# Altium footprint library Female_Header 1×8 2.54mm.PcbLib: 1 footprints
Each footprint in its own frame and in the unit in brackets; x right, y up, seen from the top. Pads: shape width x height; smd on the part's side, far side on the other; paste and mask are expansions set on the pad; w line width, h text height; cw(c..) or ccw(c..) is an arc to the next point about the centre after c.
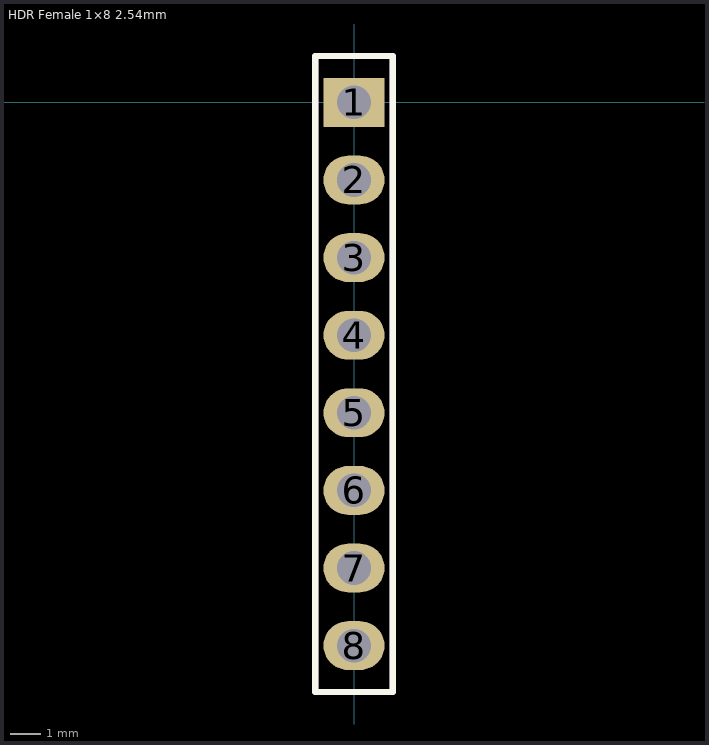
[diagram p0: the footprint, top view; thin cyan lines are the x and y axes]

## HDR Female 1×8 2.54mm [mm]
pads (8):
  rect 2x1.6 hole 1.1: 1(0,0)
  oval 2x1.6 hole 1.1: 2(0,-2.54) 3(0,-5.08) 4(0,-7.62) 5(0,-10.16) 6(0,-12.7) 7(0,-15.24) 8(0,-17.78)
Top Overlay:
  lines w0.2: -1.27,-19.304 -1.27,-19.05 -1.27,1.524 1.27,1.524 1.27,-19.05 1.27,-19.304 -1.27,-19.304
Mechanical 2:
  lines w0.2: -1.27,-19.304 -1.27,1.524 1.27,1.524 1.27,-19.304 0.635,-19.304 -0.635,-19.304 -1.27,-19.304
  text "1" at -2.54,-0.508 h1
  text ".Designator" at 0.548,-15.766 h1.52
3D body "m20-7820842_asm.stp": height 8.31, standoff -3.19, extent -1.23,-19.25 1.27,1.47